# Altium schematic symbol library connector.SchLib: 1 symbol
Pins are listed as number, name and electrical type; pins without a type are passive.

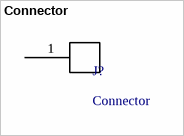
[diagram p0: symbol Connector]

## Connector
designator J?
footprint connector
footprint connector
pins: 1